# EAGLE library part RJE392881400 (library RJE392881400)
Modular Connectors / Ethernet Connectors RA Two Port With Shield, no LED Source: Datasheet <https://componentsearchengine.com/Datasheets/1/RJE392881400.pdf>
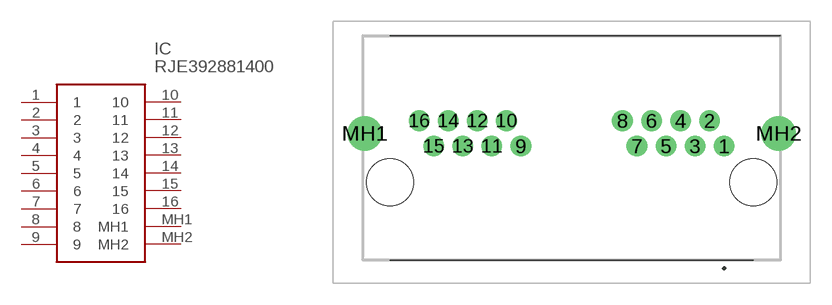
[diagram p0: symbol with the pads of RJE392881400; footprint RJE392881400]

Designator prefix IC

## RJE392881400 (Description: Modular Connectors / Ethernet Connectors RA Two Port With Shield, no LED; Height: 13.2mm; Manufacturer_Name: Amphenol; Manufacturer_Part_Number: RJE392881400; Mouser_Part_Number: 523-RJE392881400; Mouser_Price-Stock: https://www.mouser.com/Search/Refine.aspx?Keyword=523-RJE392881400)  [RJE392881400]
1  1
2  2
3  3
4  4
5  5
6  6
7  7
8  8
9  9
10  10
11  11
12  12
13  13
14  14
15  15
16  16
MH1  MH1
MH2  MH2

## Footprint RJE392881400 (pad centres in mm)
RJE392881400-2
drill 0.94 pad 1.462: 1 0,0; 2 -1.02,1.78; 3 -2.04,0; 4 -3.06,1.78; 5 -4.08,0; 6 -5.1,1.78; 7 -6.12,0; 8 -7.14,1.78; 9 -14.28,0; 10 -15.3,1.78; 11 -16.32,0; 12 -17.34,1.78; 13 -18.36,0; 14 -19.38,1.78; 15 -20.4,0; 16 -21.42,1.78
drill 1.62 pad 2.43: MH1 -25.245,0.89; MH2 3.825,0.89
hole 3.3 at -23.465,-2.54
hole 3.3 at 2.045,-2.54